# EAGLE library part 6871XX149022_687150149022 (library 68611414422)
WR-FPC 0.50 mm SMT ZIF Horizontal - Bottom Contact KIND PROPERTIES Pitch 0.5 mm MATERIAL PROPERTIES Insulator Material PA6T Contact Material Phosphor Bronze Contact Plating 120 (µ") Tin over 50 (µ") Nickel Contact Type Stamped Solder Tabs Brass <https://www.we-online.com/catalog/media/o32848v209%20Family_Con_FPC_ZIF_050_6871xx149022.jpg> Details see: https://www.we-online.com/catalog/en/FPC_0_5_SMT_ZIF_HORIZONTAL_BUTTOM_CONTACT_6871XX149022/ Updated by Ella Wu 2020-08-26 2020(C) Wurth Elektronik
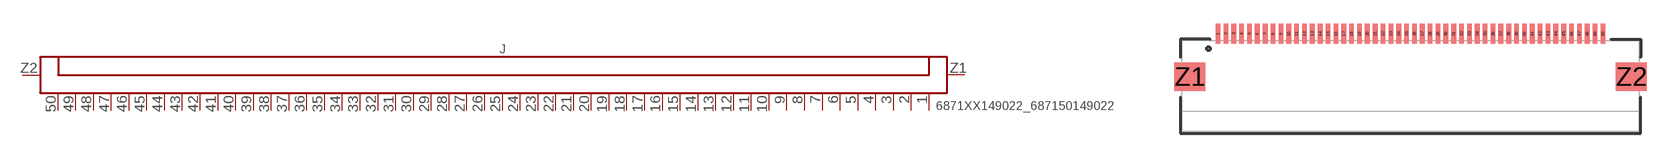
[diagram p61: symbol with the pads of 687150149022; footprint 687150149022]

Designator prefix J

## 6871XX149022_687150149022 (CONTACT-RESISTANCE: 50mOhm; DATASHEET-URL: https://www.we-online.com/catalog/datasheet/687150149022.pdf; IR: 0.5A; L: 29.1mm; PACKAGING: Tape and Reel; PART-NUMBER: 687150149022; PINS: 50; PITCH: 0.5mm; TYPE: Horizontal; VALUE: 687150149022; WORKING-VOLTAGE: 50V(AC))  [687150149022]
1  1  pas
2  2  pas
3  3  pas
4  4  pas
5  5  pas
6  6  pas
7  7  pas
8  8  pas
9  9  pas
10  10  pas
11  11  pas
12  12  pas
13  13  pas
14  14  pas
15  15  pas
16  16  pas
17  17  pas
18  18  pas
19  19  pas
20  20  pas
21  21  pas
22  22  pas
23  23  pas
24  24  pas
25  25  pas
26  26  pas
27  27  pas
28  28  pas
29  29  pas
30  30  pas
31  31  pas
32  32  pas
33  33  pas
34  34  pas
35  35  pas
36  36  pas
37  37  pas
38  38  pas
39  39  pas
40  40  pas
41  41  pas
42  42  pas
43  43  pas
44  44  pas
45  45  pas
46  46  pas
47  47  pas
48  48  pas
49  49  pas
50  50  pas
Z1  Z1  pas
Z2  Z2  pas

## Footprint 687150149022 (pad centres in mm)
WR-FPC 0.50 mm SMT ZIF Horizontal - Bottom Contact ,50Pins
smd 0.3 x 1.3: 1 -12.25,3.35; 2 -11.75,3.35; 3 -11.25,3.35; 4 -10.75,3.35; 5 -10.25,3.35; 6 -9.75,3.35; 7 -9.25,3.35; 8 -8.75,3.35; 9 -8.25,3.35; 10 -7.75,3.35; 11 -7.25,3.35; 12 -6.75,3.35; 13 -6.25,3.35; 14 -5.75,3.35; 15 -5.25,3.35; 16 -4.75,3.35; 17 -4.25,3.35; 18 -3.75,3.35; 19 -3.25,3.35; 20 -2.75,3.35; 21 -2.25,3.35; 22 -1.75,3.35; 23 -1.25,3.35; 24 -0.75,3.35; 25 -0.25,3.35; 26 0.25,3.35; 27 0.75,3.35; 28 1.25,3.35; 29 1.75,3.35; 30 2.25,3.35; 31 2.75,3.35; 32 3.25,3.35; 33 3.75,3.35; 34 4.25,3.35; 35 4.75,3.35; 36 5.25,3.35; 37 5.75,3.35; 38 6.25,3.35; 39 6.75,3.35; 40 7.25,3.35; 41 7.75,3.35; 42 8.25,3.35; 43 8.75,3.35; 44 9.25,3.35; 45 9.75,3.35; 46 10.25,3.35; 47 10.75,3.35; 48 11.25,3.35; 49 11.75,3.35; 50 12.25,3.35
smd 2 x 1.8: Z1 -14.05,0.6; Z2 14.05,0.6